# Altium footprint library Transistors.PcbLib: 3 footprints
Each footprint in its own frame and in the unit in brackets; x right, y up, seen from the top. Pads: shape width x height; smd on the part's side, far side on the other; paste and mask are expansions set on the pad; w line width, h text height; cw(c..) or ccw(c..) is an arc to the next point about the centre after c.
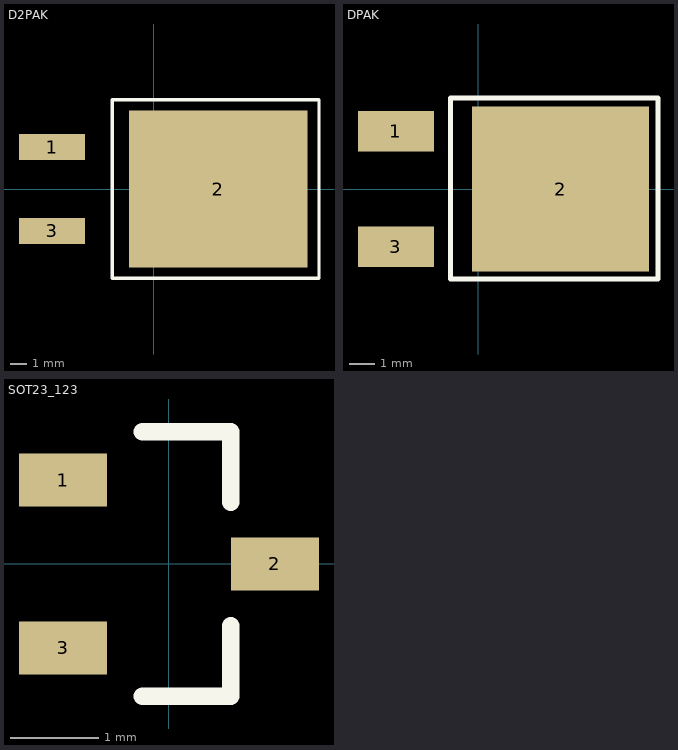
[diagram p0: the footprints below, top view; thin cyan lines are the x and y axes]

## D2PAK [mm]
height 4.4
pads (3):
  rect 4x1.6 smd: 1(-6.15,2.54) 3(-6.15,-2.54)
  rect 10.8x9.5 smd: 2(3.9,0)
Top Overlay:
  lines w0.2: -2.5,-5.4 10,-5.4 10,5.4 -2.5,5.4 -2.5,-5.4
3D body "D2PACK.step": height 4.98, standoff -0.03, extent -7.003,-5.08 8.261,5.08

## DPAK [mm]
height 2.4
pads (3):
  rect 3x1.6 smd: 1(-3.25,2.29) 3(-3.25,-2.29)
  rect 7x6.5 smd: 2(3.25,0)
Top Overlay:
  lines w0.2: -1.1,-3.556 -1.1,3.6 7.1,3.6 7.1,-3.556 -1.1,-3.556
3D body "DPAK.step": height 2.39, standoff -0.02, extent -3.538,-3.27 6.4,3.27

## SOT23_123 [mm]
height 1.1
pads (3):
  rect 1x0.6 smd: 1(-1.2,0.95) 2(1.2,0) 3(-1.2,-0.95)
Top Overlay:
  lines w0.2: -0.3,-1.5 0.7,-1.5 0.7,-0.7 ; -0.3,1.5 0.7,1.5 0.7,0.7
3D body "SOT95P237X112-3N.step": height 1.12, standoff 0, extent -1.32,-1.52 1.32,1.52